# Altium integrated library Xilinx Virtex-E.IntLib: 288 symbols (part 33 of 73)
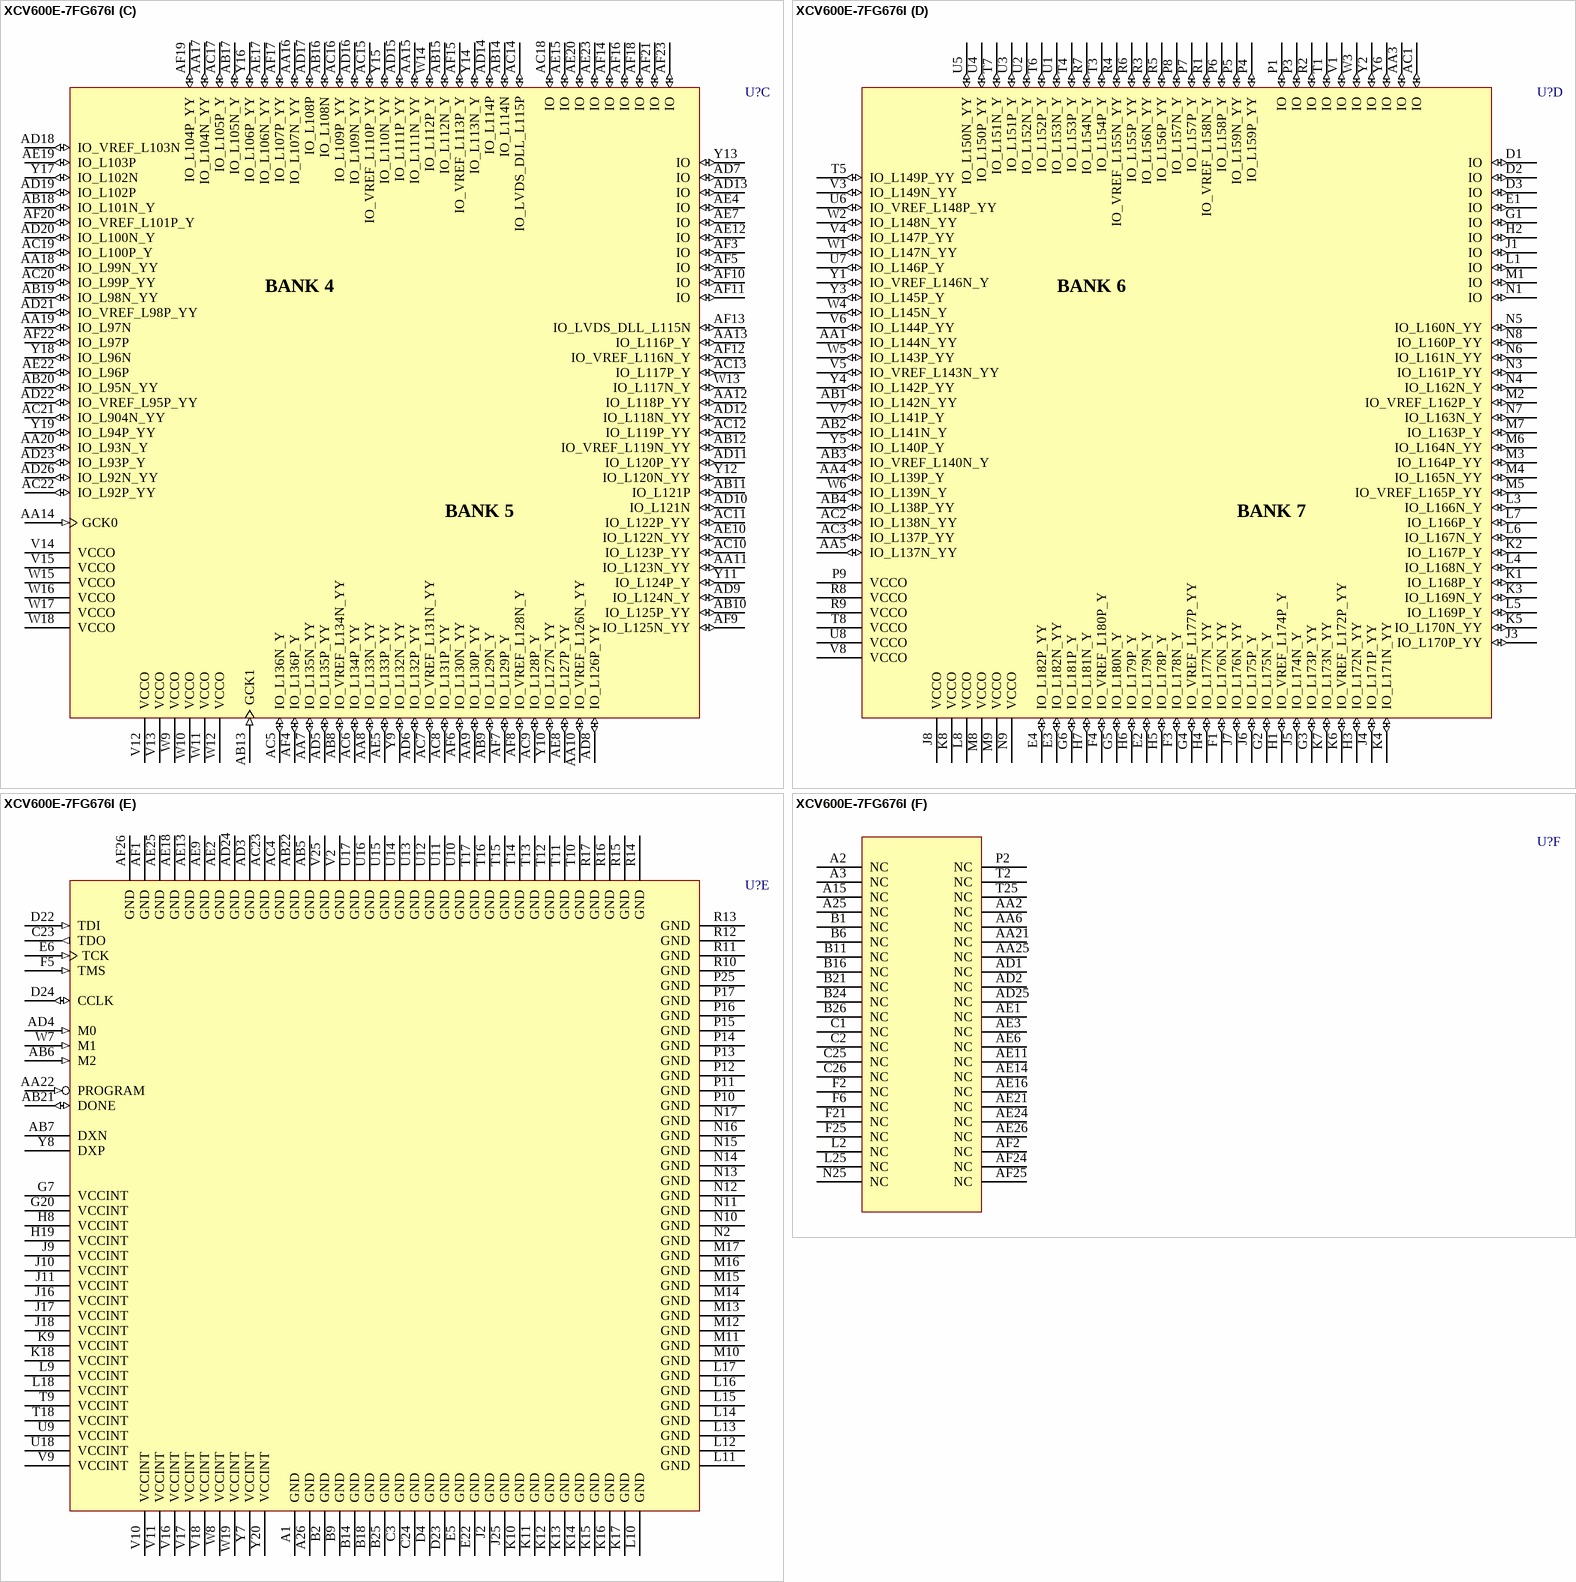
[diagram p523: symbol XCV600E-7FG676I]

## XCV600E-7FG676I
designator U?
Virtex-E 1.8V FPGA, 676-Ball FBGA, Industrial Grade; PackageDocument: ver1.1, Apr-2001; Note: Solder pads are defined by the copper, i.e. non-soldermask defined (NSMD); Published: 19-Sep-2001; LatestRevisionDate: 17-Jul-2002; LatestRevisionNote: Re-released for DXP Platform.; DatasheetDocument: Mar-2003; PackageReference: FG676; Publisher: Altium Limited; Code_JEDEC: MS-034-AAL-1; Code_IPC: PBGA 27X27 FE676
footprint FG676 (676-Ball Fine Pitch Ball Grid Array (FG676))
3D model XCV600E-FG676 (676-Ball Fine Pitch Ball Grid Array (FG676))
signal-integrity model XCV600E_FG676 (Virtex-E)
part A pins: A4 IO_L3N (io), A5 IO_L6N_YY (io), A6 IO (io), A7 IO_L9N (io), A8 IO_L12N_Y (io), A9 IO (io), A10 IO (io), A11 IO_L18N_YY (io), A12 IO_VREF_L20N_Y (io), A13 IO (io), A14 IO_VREF_L23P_Y (io), A16 IO (io), A17 IO_L29P_YY (io), A18 IO_L33N_YY (io), A19 IO (io), A20 IO (io), A21 IO_L40N_YY (io), A22 IO (io), A23 IO_L43N_Y (io), A24 IO (io), B3 IO (io), B4 IO (io), B5 IO_L4N (io), B7 IO_VREF_L8N_Y (io), B8 IO_L10N (io), B10 IO_L14N_YY (io), B12 IO (io), B13 IO_LVDS_DLL_L21N (io), B15 IO (io), B17 IO (io), B19 IO_VREF_L35P_Y (io), B20 IO_L37P_YY (io), B22 IO_L42N_YY (io), B23 IO (io), C4 IO_L0N_Y (io), C5 IO_L1P_YY (io), C6 IO (io), C7 IO_L7P_Y (io), C8 IO (io), C9 IO_L11N_YY (io), C10 IO_L15N (io), C11 IO_VREF_L17N_YY (io), C12 IO_L19P_Y (io), C13 GCK2 (in), C14 IO_L24N_Y (io), C15 IO_L25P_YY (io), C16 IO_L27N_YY (io), C17 IO_L30N_YY (io), C18 IO_L32P_YY (io), C19 IO_L34N_YY (io), C20 IO_VREF_L38P_YY (io), C21 IO_VREF_L41P_YY (io), C22 IO_WRITE_L44N_YY (io), D5 IO (io), D6 IO_VREF_L2N_YY (io), D7 IO_L4P (io), D8 IO_L7N_Y (io), D9 IO_L9P (io), D10 IO_L13P_YY (io), D11 IO_L16P_YY (io), D12 IO_L19N_Y (io), D13 IO (io), D14 IO_L23N_Y (io), D15 IO_VREF_L26P_YY (io), D16 IO_L28P (io), D17 IO_L31P_Y (io), D18 IO_L35N_Y (io), D19 IO_L36N_Y (io), D20 IO_L40P_YY (io), D21 IO_L43P_Y (io), E7 IO_L2P_YY (io), E8 IO_VREF_L5N_YY (io), E9 IO_L8P_Y (io), E10 IO_L12P_Y (io), E11 IO_L15P (io), E12 IO_L18P_YY (io), E13 GCK3 (in), E14 IO_L22N (io), E15 IO_L26N_YY (io), E16 IO_L29N_YY (io), E17 IO_L30P_YY (io), E18 IO_L36P_Y (io), E19 IO_L39P_YY (io), E20 IO_L42P_YY (io), E21 IO_CS_L44P_YY (io), F7 IO_L0P_Y (io), F8 IO_L3P (io), F9 IO_L6P_YY (io), F10 IO_L11P_YY (io), F11 IO_L14P_YY (io), F12 IO_L17P_YY (io), F13 IO_L22P (io), F14 IO_LVDS_DLL_L21P (io), F15 IO_L27P_YY (io), F16 IO_L31N_Y (io), F17 IO_L32N_YY (io), F18 IO_L37N_YY (io), F19 IO_L41N_YY (io), G8 IO_L1N_YY (io), G9 IO_L5P_YY (io), G10 IO_VREF_L10P (io), G11 IO_L13N_YY (io), G12 IO_L16N_YY (io), G13 IO (io), G14 IO_L25N_YY (io), G15 IO_L28N (io), G16 IO_VREF_L33P_YY (io), G17 IO_L34P_YY (io), G18 IO_L39N_YY (io), G19 IO_L38N_YY (io), H9 VCCO (power), H10 VCCO (power), H11 VCCO (power), H12 VCCO (power), H13 IO_L20P_Y (io), H14 IO_L24P_Y (io), H15 VCCO (power), H16 VCCO (power), H17 VCCO (power), H18 VCCO (power), J12 VCCO (power), J13 VCCO (power), J14 VCCO (power), J15 VCCO (power)
part B pins: AA23 IO_L89P_Y (io), AA24 IO_L86P_Y (io), AA26 IO_L84N_YY (io), AB23 IO_D7_L91P_YY (io), AB24 IO_L89N_Y (io), AB25 IO (io), AB26 IO_L87P_Y (io), AC24 IO_L90N_YY (io), AC25 IO (io), AC26 IO (io), D25 IO (io), D26 IO (io), E23 IO_DOUT_BUSY_L45P_YY (io), E24 IO_L46P_YY (io), E25 IO_L49P_Y (io), E26 IO (io), F20 IO_L46N_YY (io), F22 IO_DIN_D0_L45N_YY (io), F23 IO_L50P_YY (io), F24 IO_VREF_L48P_Y (io), F26 IO (io), G21 IO_L47P_Y (io), G22 IO_L47N_Y (io), G23 IO_L50N_YY (io), G24 IO_L52P_YY (io), G25 IO_L53N_Y (io), G26 IO_VREF_L54P_Y (io), H20 IO_L48N_Y (io), H21 IO_L49N_Y (io), H22 IO_L52N_YY (io), H23 IO_VREF_L51P_YY (io), H24 IO_L55P_YY (io), H25 IO_L58P_YY (io), H26 IO (io), J19 VCCO (power), J20 IO_L51N_YY (io), J21 IO_L53P_Y (io), J22 IO_L54N_Y (io), J23 IO_L55N_YY (io), J24 IO_L56P_YY (io), J26 IO_L59N_Y (io), K19 VCCO (power), K20 IO_VREF_L56N_YY (io), K21 IO_L57N_YY (io), K22 IO_D2_L57P_YY (io), K23 IO_L58N_YY (io), K24 IO_D1 (io), K25 IO_L60P_Y (io), K26 IO (io), L19 VCCO (power), L20 IO_L59P_Y (io), L21 IO_L61P_Y (io), L22 IO_L60N_Y (io), L23 IO_L61N_Y (io), L24 IO_L62N_Y (io), L26 IO_L64P_YY (io), M18 VCCO (power), M19 VCCO (power), M20 IO_L62P_Y (io), M21 IO_L64N_YY (io), M22 IO_D3_L63N_YY (io), M23 IO_VREF_L63P_YY (io), M24 IO_L65N_Y (io), M25 IO (io), M26 IO_VREF_L66P_Y (io), N18 VCCO (power), N19 IO_L65P_Y (io), N20 IO_L66N_Y (io), N21 IO_L67N_YY (io), N22 IO_L68N_YY (io), N23 IO_L68P_YY (io), N24 IO_L67P_YY (io), N26 IO (io), P18 VCCO (power), P19 IO_L71P_Y (io), P20 IO_L71N_Y (io), P21 IO_L69P_YY (io), P22 IO_L70P_Y (io), P23 IO_L69N_YY (io), P24 IO (io), P26 IO (io), R18 VCCO (power), R19 VCCO (power), R20 IO_L74N_Y (io), R21 IO_L72P_YY (io), R22 IO_L72N_YY (io), R23 IO_VREF_L73N_YY (io), R24 IO_D4_L73P_YY (io), R25 IO_VREF_L70N_Y (io), R26 IO (io), T19 VCCO (power), T20 IO_L79P_YY (io), T21 IO_L77P_Y (io), T22 IO_L75P_Y (io), T23 IO_L76P_Y (io), T24 IO_L74P_Y (io), T26 IO (io), U19 VCCO (power), U20 IO_L77N_Y (io), U21 IO_VREF_L80N_YY (io), U22 IO_L78P_YY (io), U23 IO_D5_L79N_YY (io), U24 IO_L75N_Y (io), U25 IO_L76N_Y (io), U26 IO (io), V19 VCCO (power), V20 IO_L84P_YY (io), V21 IO_L83N_Y (io), V22 IO_L82P_Y (io), V23 IO_L81P_YY (io), V24 IO_D6_L80P_YY (io), V26 IO_L78N_YY (io), W20 IO_L90P_YY (io), W21 IO_L87N_Y (io), W22 IO_VREF_L88N_Y (io), W23 IO_VREF_L85N_YY (io), W24 IO_L81N_YY (io), W25 IO (io), W26 IO_VREF_L82N_Y (io), Y21 IO_INIT_L91N_YY (io), Y22 IO_L88P_Y (io), Y23 IO_L86N_Y (io), Y24 IO_L85P_YY (io), Y25 IO_L83P_Y (io), Y26 IO (io)
part C pins: AA7 IO_L135N_YY (io), AA8 IO_L133N_YY (io), AA9 IO_L130P_YY (io), AA10 IO_VREF_L126N_YY (io), AA11 IO_L123N_YY (io), AA12 IO_L118P_YY (io), AA13 IO_L116P_Y (io), AA14 GCK0 (in), AA15 IO_L111N_YY (io), AA16 IO_L107N_YY (io), AA17 IO_L104N_YY (io), AA18 IO_L99N_YY (io), AA19 IO_L97N (io), AA20 IO_L93N_Y (io), AB8 IO_VREF_L134N_YY (io), AB9 IO_L129N_Y (io), AB10 IO_L125P_YY (io), AB11 IO_L121P (io), AB12 IO_VREF_L119N_YY (io), AB13 GCK1 (in), AB14 IO_L114N (io), AB15 IO_L112N_Y (io), AB16 IO_L108N (io), AB17 IO_L105N_Y (io), AB18 IO_L101N_Y (io), AB19 IO_L98N_YY (io), AB20 IO_L95N_YY (io), AC5 IO_L136N_Y (io), AC6 IO_L134P_YY (io), AC7 IO_VREF_L131N_YY (io), AC8 IO_L131P_YY (io), AC9 IO_L128P_Y (io), AC10 IO_L123P_YY (io), AC11 IO_L122P_YY (io), AC12 IO_L119P_YY (io), AC13 IO_L117P_Y (io), AC14 IO_LVDS_DLL_L115P (io), AC15 IO_VREF_L110P_YY (io), AC16 IO_L109P_YY (io), AC17 IO_L105P_Y (io), AC18 IO (io), AC19 IO_L100P_Y (io), AC20 IO_L99P_YY (io), AC21 IO_L904N_YY (io), AC22 IO_L92P_YY (io), AD5 IO_L135P_YY (io), AD6 IO_L132P_YY (io), AD7 IO (io), AD8 IO_L126P_YY (io), AD9 IO_L124N_Y (io), AD10 IO_L121N (io), AD11 IO_L120P_YY (io), AD12 IO_L118N_YY (io), AD13 IO (io), AD14 IO_L114P (io), AD15 IO_L111P_YY (io), AD16 IO_L109N_YY (io), AD17 IO_L108P (io), AD18 IO_VREF_L103N (io), AD19 IO_L102P (io), AD20 IO_L100N_Y (io), AD21 IO_VREF_L98P_YY (io), AD22 IO_VREF_L95P_YY (io), AD23 IO_L93P_Y (io), AD26 IO_L92N_YY (io), AE4 IO (io), AE5 IO_L133P_YY (io), AE7 IO (io), AE8 IO_L127P_YY (io), AE10 IO_L122N_YY (io), AE12 IO (io), AE15 IO (io), AE17 IO_L106N_YY (io), AE19 IO_L103P (io), AE20 IO (io), AE22 IO_L96P (io), AE23 IO (io), AF3 IO (io), AF4 IO_L136P_Y (io), AF5 IO (io), AF6 IO_L130N_YY (io), AF7 IO_L129P_Y (io), AF8 IO_VREF_L128N_Y (io), AF9 IO_L125N_YY (io), AF10 IO (io), AF11 IO (io), AF12 IO_VREF_L116N_Y (io), AF13 IO_LVDS_DLL_L115N (io), AF14 IO (io), AF15 IO_VREF_L113P_Y (io), AF16 IO (io), AF17 IO_L107P_YY (io), AF18 IO (io), AF19 IO_L104P_YY (io), AF20 IO_VREF_L101P_Y (io), AF21 IO (io), AF22 IO_L97P (io), AF23 IO (io), V12 VCCO (power), V13 VCCO (power), V14 VCCO (power), V15 VCCO (power), W9 VCCO (power), W10 VCCO (power), W11 VCCO (power), W12 VCCO (power), W13 IO_L117N_Y (io), W14 IO_L112P_Y (io), W15 VCCO (power), W16 VCCO (power), W17 VCCO (power), W18 VCCO (power), Y9 IO_L132N_YY (io), Y10 IO_L127N_YY (io), Y11 IO_L124P_Y (io), Y12 IO_L120N_YY (io), Y13 IO (io), Y14 IO_L113N_Y (io), Y15 IO_L110N_YY (io), Y16 IO_L106P_YY (io), Y17 IO_L102N (io), Y18 IO_L96N (io), Y19 IO_L94P_YY (io)
part D pins: AA1 IO_L144N_YY (io), AA3 IO (io), AA4 IO_L139P_Y (io), AA5 IO_L137N_YY (io), AB1 IO_L142N_YY (io), AB2 IO_L141N_Y (io), AB3 IO_VREF_L140N_Y (io), AB4 IO_L138P_YY (io), AC1 IO (io), AC2 IO_L138N_YY (io), AC3 IO_L137P_YY (io), D1 IO (io), D2 IO (io), D3 IO (io), E1 IO (io), E2 IO_L179N_Y (io), E3 IO_L182N_YY (io), E4 IO_L182P_YY (io), F1 IO_L176N_YY (io), F3 IO_L178N_Y (io), F4 IO_VREF_L180P_Y (io), G1 IO (io), G2 IO_L175N_Y (io), G3 IO_L173P_YY (io), G4 IO_VREF_L177P_YY (io), G5 IO_L180N_Y (io), G6 IO_L181P_Y (io), H1 IO_VREF_L174P_Y (io), H2 IO (io), H3 IO_L172N_YY (io), H4 IO_L177N_YY (io), H5 IO_L178P_Y (io), H6 IO_L179P_Y (io), H7 IO_L181N_Y (io), J1 IO (io), J3 IO_L170P_YY (io), J4 IO_L171P_YY (io), J5 IO_L174N_Y (io), J6 IO_L175P_Y (io), J7 IO_L176N_YY (io), J8 VCCO (power), K1 IO_L168P_Y (io), K2 IO_L167P_Y (io), K3 IO_L169N_Y (io), K4 IO_L171N_YY (io), K5 IO_L170N_YY (io), K6 IO_VREF_L172P_YY (io), K7 IO_L173N_YY (io), K8 VCCO (power), L1 IO (io), L3 IO_L166N_Y (io), L4 IO_L168N_Y (io), L5 IO_L169P_Y (io), L6 IO_L167N_Y (io), L7 IO_L166P_Y (io), L8 VCCO (power), M1 IO (io), M2 IO_VREF_L162P_Y (io), M3 IO_L164P_YY (io), M4 IO_L165N_YY (io), M5 IO_VREF_L165P_YY (io), M6 IO_L164N_YY (io), M7 IO_L163P_Y (io), M8 VCCO (power), M9 VCCO (power), N1 IO (io), N3 IO_L161P_YY (io), N4 IO_L162N_Y (io), N5 IO_L160N_YY (io), N6 IO_L161N_YY (io), N7 IO_L163N_Y (io), N8 IO_L160P_YY (io), N9 VCCO (power), P1 IO (io), P3 IO (io), P4 IO_L159P_YY (io), P5 IO_L159N_YY (io), P6 IO_L158P_Y (io), P7 IO_L157P_Y (io), P8 IO_L157N_Y (io), P9 VCCO (power), R1 IO_VREF_L158N_Y (io), R2 IO (io), R3 IO_L156N_YY (io), R4 IO_VREF_L155N_YY (io), R5 IO_L156P_YY (io), R6 IO_L155P_YY (io), R7 IO_L154N_Y (io), R8 VCCO (power), R9 VCCO (power), T1 IO (io), T3 IO_L154P_Y (io), T4 IO_L153P_Y (io), T5 IO_L149P_YY (io), T6 IO_L152P_Y (io), T7 IO_L151N_Y (io), T8 VCCO (power), U1 IO_L153N_Y (io), U2 IO_L152N_Y (io), U3 IO_L151P_Y (io), U4 IO_L150P_YY (io), U5 IO_L150N_YY (io), U6 IO_VREF_L148P_YY (io), U7 IO_L146P_Y (io), U8 VCCO (power), V1 IO (io), V3 IO_L149N_YY (io), V4 IO_L147P_YY (io), V5 IO_VREF_L143N_YY (io), V6 IO_L144P_YY (io), V7 IO_L141P_Y (io), V8 VCCO (power), W1 IO_L147N_YY (io), W2 IO_L148N_YY (io), W3 IO (io), W4 IO_L145N_Y (io), W5 IO_L143P_YY (io), W6 IO_L139N_Y (io), Y1 IO_VREF_L146N_Y (io), Y2 IO (io), Y3 IO_L145P_Y (io), Y4 IO_L142P_YY (io), Y5 IO_L140P_Y (io), Y6 IO (io)
part E pins: A1 GND (power), A26 GND (power), AA22 PROGRAM (in), AB5 GND (power), AB6 M2 (in), AB7 DXN, AB21 DONE (io), AB22 GND (power), AC4 GND (power), AC23 GND (power), AD3 GND (power), AD4 M0 (in), AD24 GND (power), AE2 GND (power), AE9 GND (power), AE13 GND (power), AE18 GND (power), AE25 GND (power), AF1 GND (power), AF26 GND (power), B2 GND (power), B9 GND (power), B14 GND (power), B18 GND (power), B25 GND (power), C3 GND (power), C23 TDO (out), C24 GND (power), D4 GND (power), D22 TDI (in), D23 GND (power), D24 CCLK (io), E5 GND (power), E6 TCK (in), E22 GND (power), F5 TMS (in), G7 VCCINT (power), G20 VCCINT (power), H8 VCCINT (power), H19 VCCINT (power), J2 GND (power), J9 VCCINT (power), J10 VCCINT (power), J11 VCCINT (power), J16 VCCINT (power), J17 VCCINT (power), J18 VCCINT (power), J25 GND (power), K9 VCCINT (power), K10 GND (power), K11 GND (power), K12 GND (power), K13 GND (power), K14 GND (power), K15 GND (power), K16 GND (power), K17 GND (power), K18 VCCINT (power), L9 VCCINT (power), L10 GND (power), L11 GND (power), L12 GND (power), L13 GND (power), L14 GND (power), L15 GND (power), L16 GND (power), L17 GND (power), L18 VCCINT (power), M10 GND (power), M11 GND (power), M12 GND (power), M13 GND (power), M14 GND (power), M15 GND (power), M16 GND (power), M17 GND (power), N2 GND (power), N10 GND (power), N11 GND (power), N12 GND (power), N13 GND (power), N14 GND (power), N15 GND (power), N16 GND (power), N17 GND (power), P10 GND (power), P11 GND (power), P12 GND (power), P13 GND (power), P14 GND (power), P15 GND (power), P16 GND (power), P17 GND (power), P25 GND (power), R10 GND (power), R11 GND (power), R12 GND (power), R13 GND (power), R14 GND (power), R15 GND (power), R16 GND (power), R17 GND (power), T9 VCCINT (power), T10 GND (power), T11 GND (power), T12 GND (power), T13 GND (power), T14 GND (power), T15 GND (power), T16 GND (power), T17 GND (power), T18 VCCINT (power), U9 VCCINT (power), U10 GND (power), U11 GND (power), U12 GND (power), U13 GND (power), U14 GND (power), U15 GND (power), U16 GND (power), U17 GND (power), U18 VCCINT (power), V2 GND (power), V9 VCCINT (power), V10 VCCINT (power), V11 VCCINT (power), V16 VCCINT (power), V17 VCCINT (power), V18 VCCINT (power), V25 GND (power), W7 M1 (in), W8 VCCINT (power), W19 VCCINT (power), Y7 VCCINT (power), Y8 DXP, Y20 VCCINT (power)
part F pins: A2 NC, A3 NC, A15 NC, A25 NC, AA2 NC, AA6 NC, AA21 NC, AA25 NC, AD1 NC, AD2 NC, AD25 NC, AE1 NC, AE3 NC, AE6 NC, AE11 NC, AE14 NC, AE16 NC, AE21 NC, AE24 NC, AE26 NC, AF2 NC, AF24 NC, AF25 NC, B1 NC, B6 NC, B11 NC, B16 NC, B21 NC, B24 NC, B26 NC, C1 NC, C2 NC, C25 NC, C26 NC, F2 NC, F6 NC, F21 NC, F25 NC, L2 NC, L25 NC, N25 NC, P2 NC, T2 NC, T25 NC
part A text: BANK 0; BANK 1
part B text: BANK 2; BANK 3
part C text: BANK 4; BANK 5
part D text: BANK 6; BANK 7

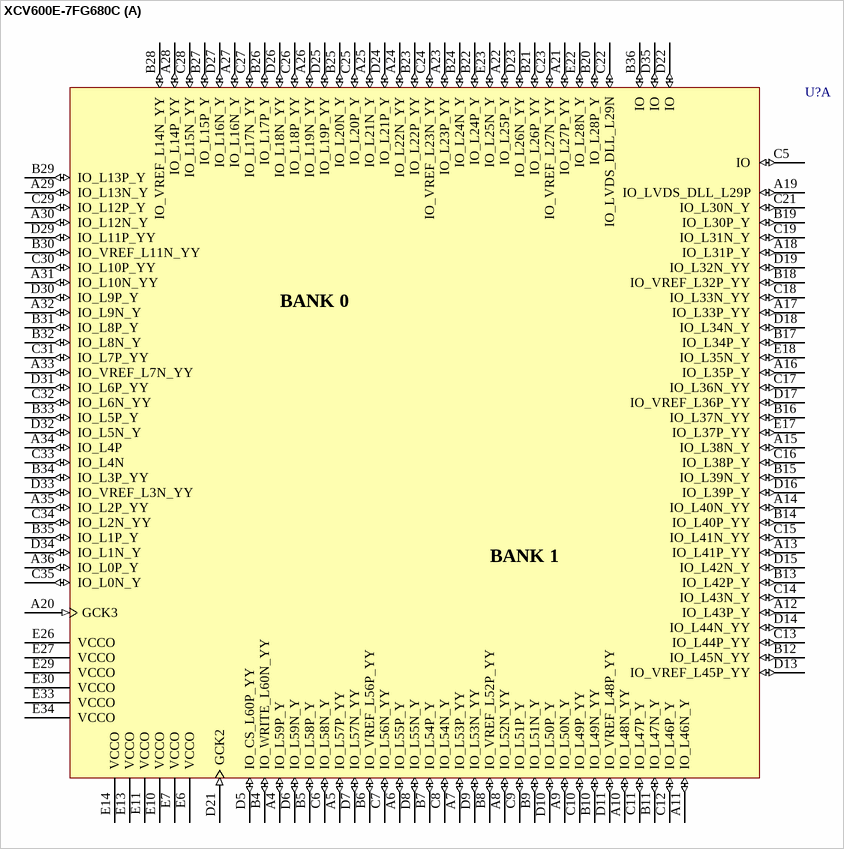
[diagram p230: symbol XCV600E-7FG680C]

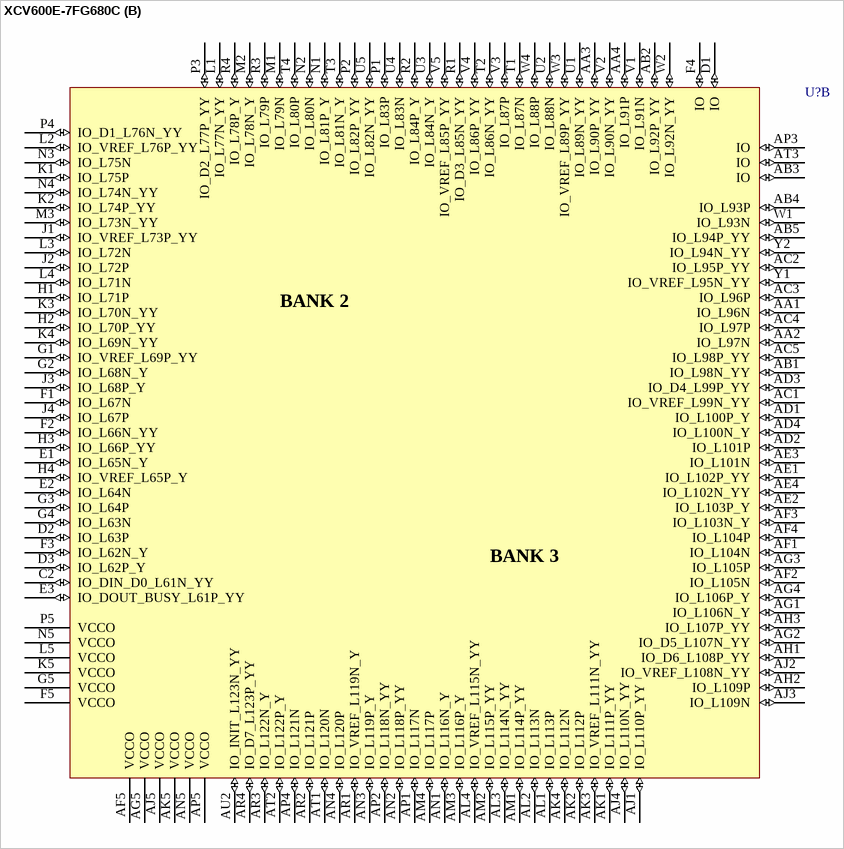
[diagram p231: symbol XCV600E-7FG680C]

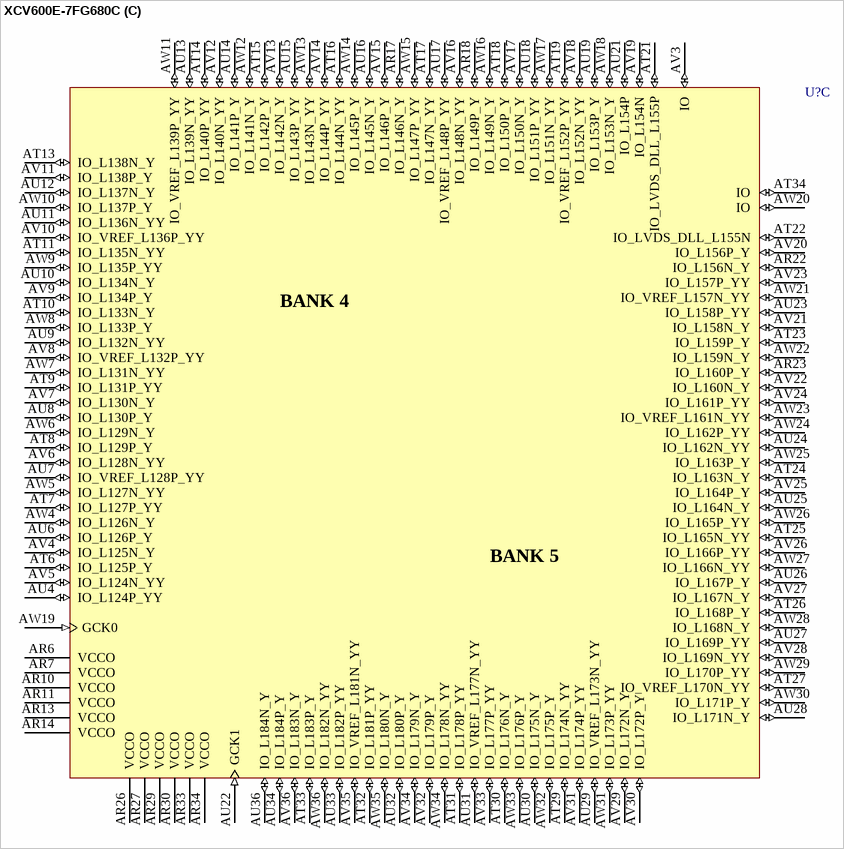
[diagram p232: symbol XCV600E-7FG680C]

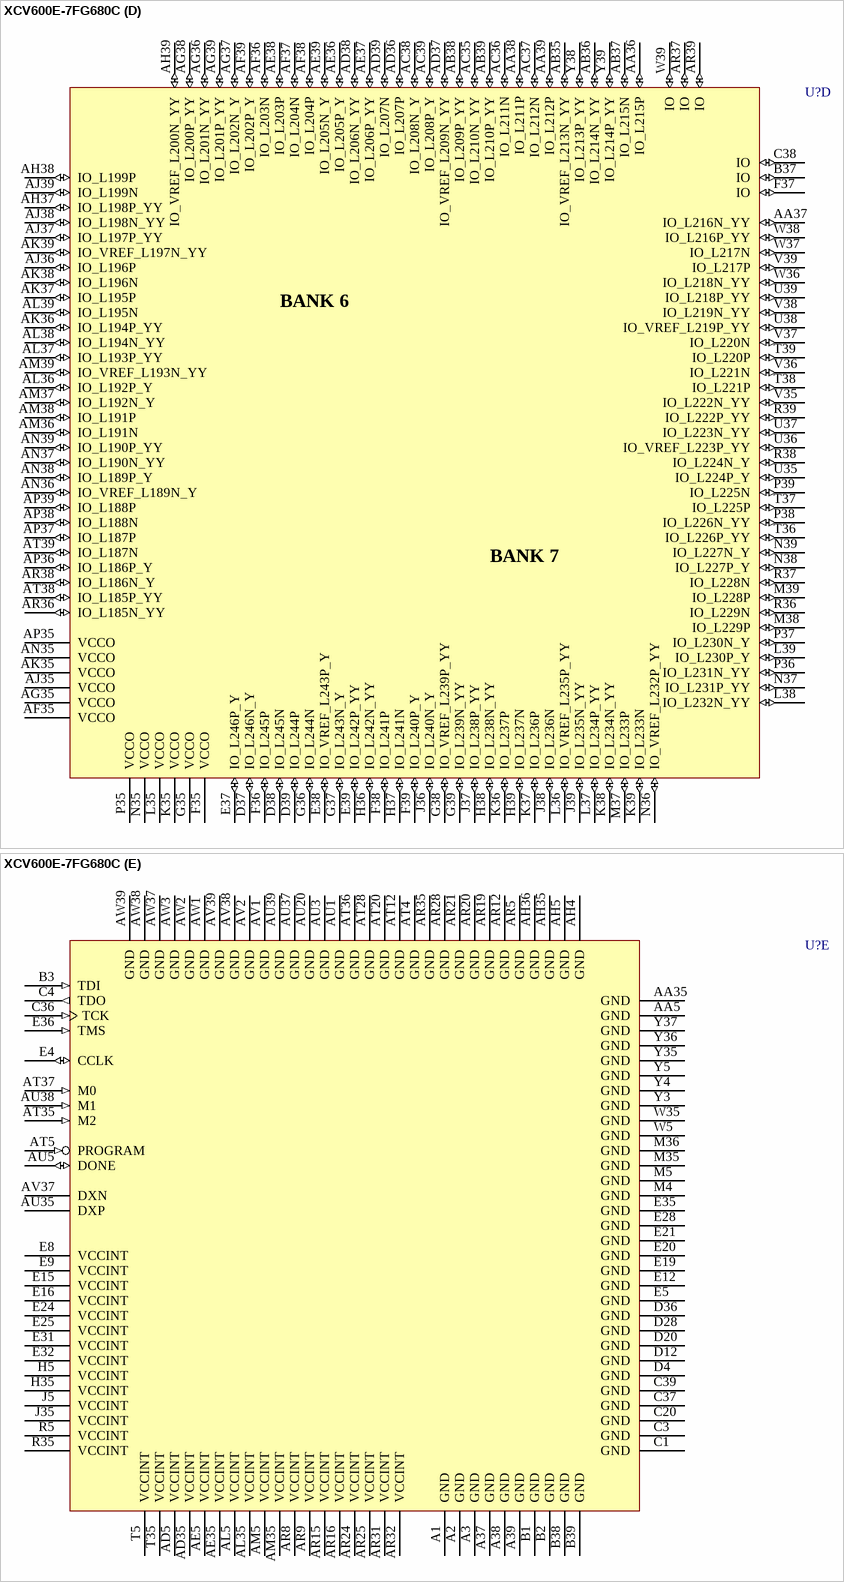
[diagram p233: symbol XCV600E-7FG680C]